# Altium footprint library SOIC14P127_865X600X175L88X40N.PcbLib: 1 footprints
Each footprint in its own frame and in the unit in brackets; x right, y up, seen from the top. Pads: shape width x height; smd on the part's side, far side on the other; paste and mask are expansions set on the pad; w line width, h text height; cw(c..) or ccw(c..) is an arc to the next point about the centre after c.
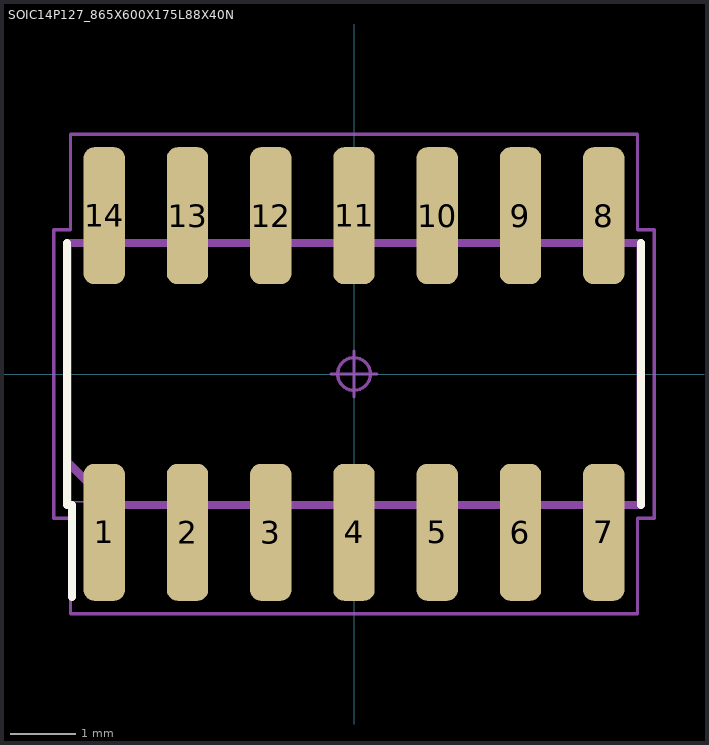
[diagram p0: the footprint, top view; thin cyan lines are the x and y axes]

## SOIC14P127_865X600X175L88X40N [mm] "Small Outline IC (SOIC), 1.27 mm pitch; 14 pin, 8.65 mm L X 3.90 mm W X 1.75 mm H body"
height 1.75
pads (14):
  rrect51% 0.63x2.09 smd: 1(-3.81,-2.415) 2(-2.54,-2.415) 3(-1.27,-2.415) 4(0,-2.415) 5(1.27,-2.415) 6(2.54,-2.415) 7(3.81,-2.415) 8(3.81,2.415) 9(2.54,2.415) 10(1.27,2.415) 11(0,2.415) 12(-1.27,2.415) 13(-2.54,2.415) 14(-3.81,2.415)
Top Overlay:
  lines w0.12: -4.38,-2 -4.38,2 ; -4.305,-3.4 -4.305,-2 ; 4.38,-2 4.38,2
Mechanical 3:
  lines w0.12: -4.38,-1.335 -4.38,2 4.38,2 4.38,-2 -3.715,-2 -4.38,-1.335
Mechanical 5:
  lines w0.025: -4.325,-1.95 4.325,-1.95 4.325,1.95 -4.325,1.95 -4.325,-1.95 ; -4.012,-3 -4.012,-2.115 -3.608,-2.115 -3.608,-3 -4.012,-3 ; -4.012,2.115 -4.012,3 -3.608,3 -3.608,2.115 -4.012,2.115 ; -2.742,-3 -2.742,-2.115 -2.338,-2.115 -2.338,-3 -2.742,-3 ; -2.742,2.115 -2.742,3 -2.338,3 -2.338,2.115 -2.742,2.115 ; -1.472,-3 -1.472,-2.115 -1.068,-2.115 -1.068,-3 -1.472,-3 ; -1.472,2.115 -1.472,3 -1.068,3 -1.068,2.115 -1.472,2.115 ; -0.202,-3 -0.202,-2.115 0.202,-2.115 0.202,-3 -0.202,-3 ; -0.202,2.115 -0.202,3 0.202,3 0.202,2.115 -0.202,2.115 ; 1.068,-3 1.068,-2.115 1.472,-2.115 1.472,-3 1.068,-3 ; 1.068,2.115 1.068,3 1.472,3 1.472,2.115 1.068,2.115 ; 2.338,-3 2.338,-2.115 2.742,-2.115 2.742,-3 2.338,-3 ; 2.338,2.115 2.338,3 2.742,3 2.742,2.115 2.338,2.115 ; 3.608,-3 3.608,-2.115 4.012,-2.115 4.012,-3 3.608,-3 ; 3.608,2.115 3.608,3 4.012,3 4.012,2.115 3.608,2.115
Mechanical 7:
  circle w0.05: c0,0 r0.25
  lines w0.05: -0.35,0 0.35,0 ; 0,-0.35 0,0.35 ; -4.58,-2.2 -4.325,-2.2 -4.325,-3.66 4.325,-3.66 4.325,-2.2 4.58,-2.2 4.58,2.2 4.325,2.2 4.325,3.66 -4.325,3.66 -4.325,2.2 -4.58,2.2 -4.58,-2.2
Mechanical 9:
  text "'.Designator'" at -5.715,-0.254 h1
3D body "SOIC14P127_865X600X175L88X40.STEP": height 1.75, standoff 0, extent -4.325,-3 4.325,3
3D body: height 1, standoff 0, extent -4.58,-3.66 4.58,3.66